# EAGLE library part BMP388 (library SparkFun-Sensors)
Bosch BMP3388 Pressure Sensor Senses pressure from 300 hPa to 1250 hPa, sends data out over I2C or Serial
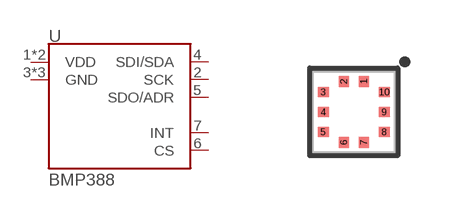
[diagram p48: symbol with the pads of LGA-10(2X2); footprint LGA-10(2X2)]

Designator prefix U

## BMP388BMP388 (PROD_ID: IC-14045)  [LGA-10(2X2)]
1  VDD
2  SCK
3  GND
4  SDI/SDA
5  SDO/ADR
6  CS
7  INT
8  GND
9  GND
10  VDD

## Footprint LGA-10(2X2) (pad centres in mm)
LGA10 Specifications: Pin count: 10 Pin pitch: .5mm Area: 2.0 x 2.0 mm Datasheet referenced for footprint <https://www.mouser.com/datasheet/2/783/BST-BMP388-DS001-01-1307765.pdf>
smd 0.25 x 0.275: 1 0.25,0.762; 2 -0.25,0.762; 6 -0.25,-0.762; 7 0.25,-0.762
smd 0.275 x 0.25: 3 -0.762,0.5; 4 -0.762,0; 5 -0.762,-0.5; 8 0.762,-0.5; 9 0.762,0; 10 0.762,0.5